# EAGLE library part WI232FHSS (library modules)
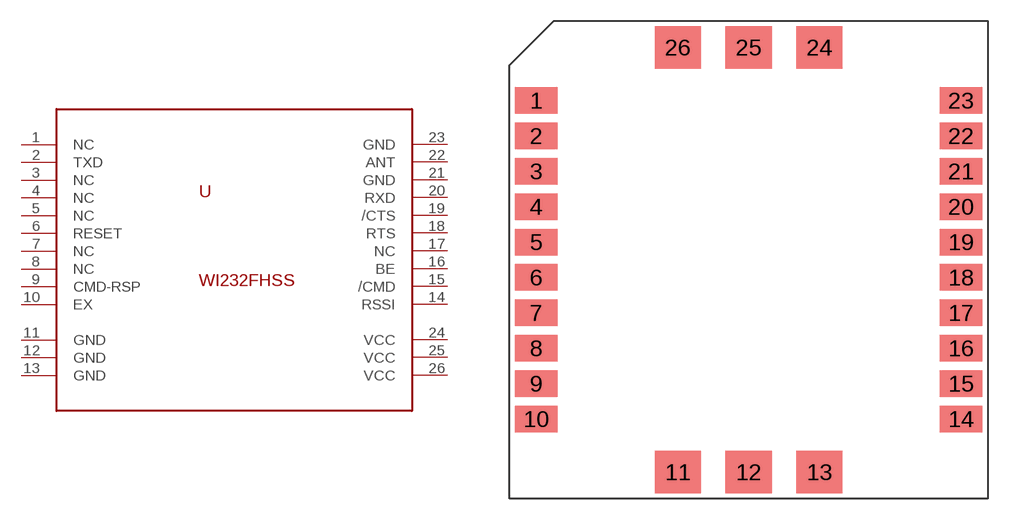
[diagram p2: symbol with the pads of WI232FHSS; footprint WI232FHSS]

Designator prefix U

## WI232FHSS  [WI232FHSS]
1  NC  nc
2  TXD  out
3  NC  nc
4  NC  nc
5  NC  nc
6  RESET  in
7  NC  nc
8  NC  nc
9  CMD-RSP  out
10  EX  out
11  GND  pwr
12  GND  pwr
13  GND  pwr
14  RSSI  out
15  /CMD  in
16  BE  out
17  NC  nc
18  RTS  in
19  /CTS  out
20  RXD  in
21  GND  pwr
22  ANT  out
23  GND  pwr
24  VCC  pwr
25  VCC  pwr
26  VCC  pwr

## Footprint WI232FHSS (pad centres in mm)
smd 3.048 x 1.905: 1 -15.24,11.43; 2 -15.24,8.89; 3 -15.24,6.35; 4 -15.24,3.81; 5 -15.24,1.27; 6 -15.24,-1.27; 7 -15.24,-3.81; 8 -15.24,-6.35; 9 -15.24,-8.89; 10 -15.24,-11.43; 14 15.24,-11.43; 15 15.24,-8.89; 16 15.24,-6.35; 17 15.24,-3.81; 18 15.24,-1.27; 19 15.24,1.27; 20 15.24,3.81; 21 15.24,6.35; 22 15.24,8.89; 23 15.24,11.43
smd 3.302 x 3.048: 11 -5.08,-15.24; 12 0,-15.24; 13 5.08,-15.24; 24 5.08,15.24; 25 0,15.24; 26 -5.08,15.24